# Altium footprint library PCB1.PcbLib: 27 footprints (part 2 of 2)
Each footprint in its own frame and in the unit in brackets; x right, y up, seen from the top. Pads: shape width x height; smd on the part's side, far side on the other; paste and mask are expansions set on the pad; w line width, h text height; cw(c..) or ccw(c..) is an arc to the next point about the centre after c.
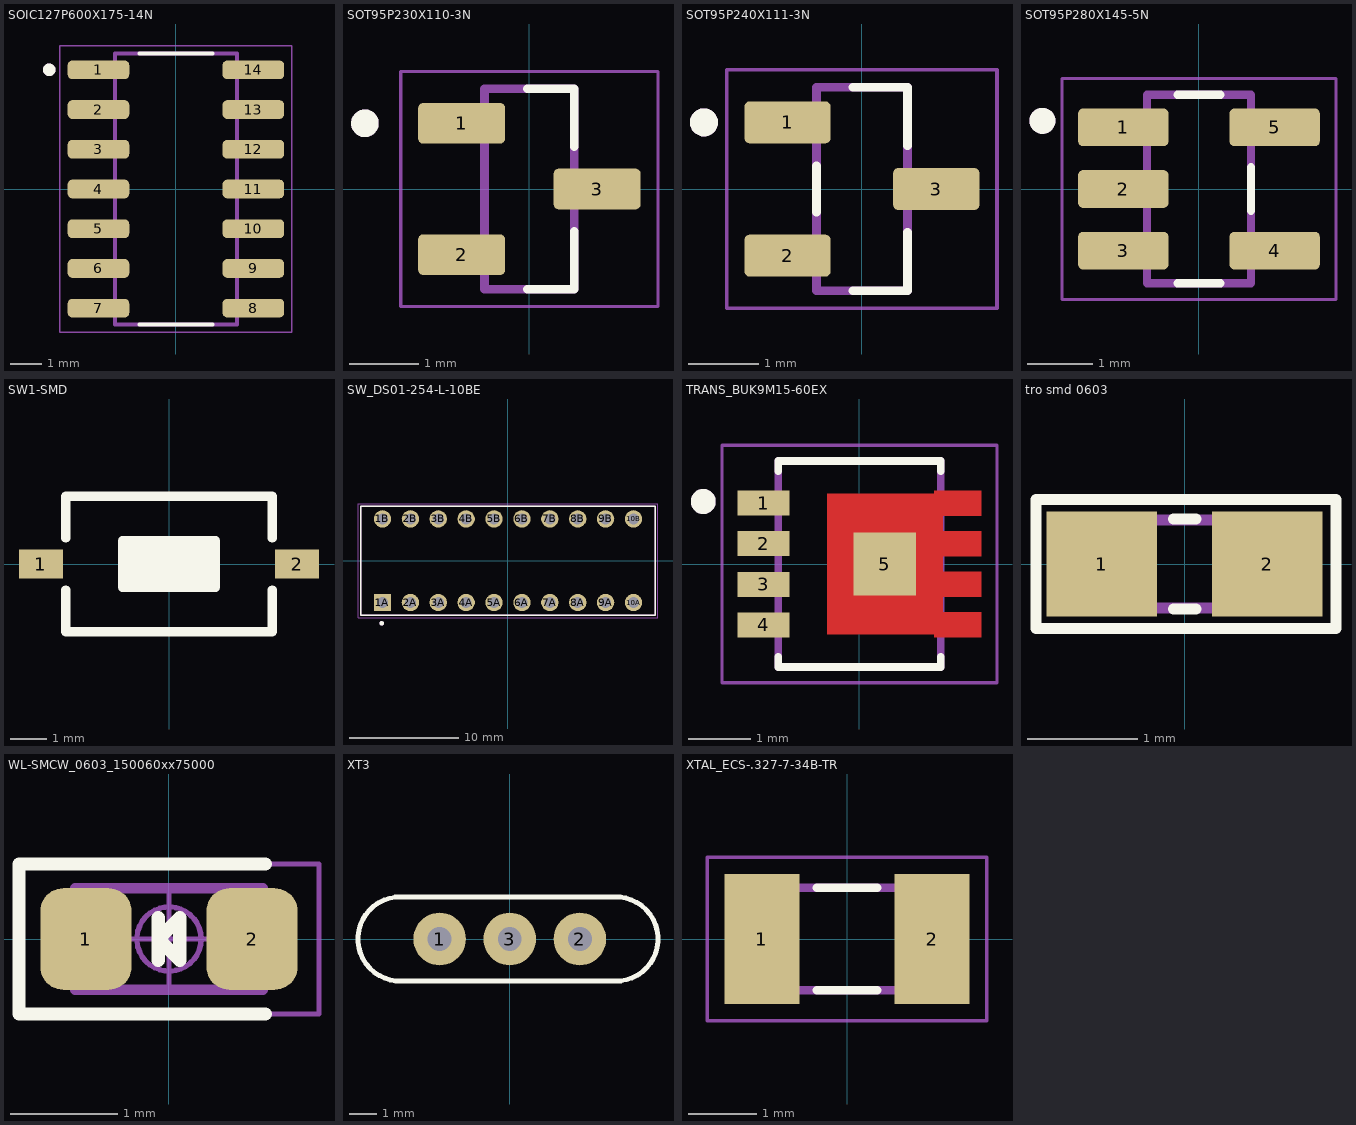
[diagram p1: the footprints below, top view; thin cyan lines are the x and y axes]

## SOIC127P600X175-14N [mm]
pads (14):
  rrect50% 1.97x0.6 smd paste+0 mask+0.102: 1(-2.475,3.81) 2(-2.475,2.54) 3(-2.475,1.27) 4(-2.475,0) 5(-2.475,-1.27) 6(-2.475,-2.54) 7(-2.475,-3.81) 8(2.475,-3.81) 9(2.475,-2.54) 10(2.475,-1.27) 11(2.475,0) 12(2.475,1.27) 13(2.475,2.54) 14(2.475,3.81)
Top Overlay:
  circle w0.2: c-4.05,3.81 r0.1
  lines w0.127: -1.17,-4.325 1.17,-4.325 ; -1.17,4.325 1.17,4.325
Mechanical 13:
  circle w0.2: c-4.05,3.81 r0.1
  lines w0.127: -1.95,-4.325 -1.95,4.325 1.95,4.325 1.95,-4.325 -1.95,-4.325
Mechanical 15:
  lines w0.05: -3.71,-4.575 -3.71,4.575 3.71,4.575 3.71,-4.575 -3.71,-4.575
3D body "step_temp.STEP": height 1.75, standoff 0, extent -3,-4.325 3,4.325

## SOT95P230X110-3N [mm]
pads (3):
  rrect25% 1.26x0.59 smd: 1(-0.98,0.95) 2(-0.98,-0.95) 3(0.98,0)
Top Overlay:
  circle w0.2: c-2.38,0.95 r0.1
  lines w0.127: -0.03,-1.45 0.65,-1.45 0.65,-0.615 ; -0.03,1.45 0.65,1.45 0.65,0.615
Mechanical 13:
  circle w0.2: c-2.38,0.95 r0.1
  lines w0.127: -0.65,-1.45 0.65,-1.45 0.65,1.45 -0.65,1.45 -0.65,-1.45
Mechanical 15:
  lines w0.05: -1.86,-1.7 -1.86,1.7 1.86,1.7 1.86,-1.7 -1.86,-1.7
3D body "step_temp.STEP": height 1.1, standoff 0, extent -1.15,-1.45 1.15,1.45

## SOT95P240X111-3N [mm]
pads (3):
  rrect25% 1.23x0.6 smd: 1(-1.06,0.95) 2(-1.06,-0.95) 3(1.06,0)
Top Overlay:
  circle w0.2: c-2.25,0.95 r0.1
  lines w0.127: -0.65,-0.33 -0.65,0.33 ; -0.125,-1.45 0.65,-1.45 0.65,-0.62 ; -0.125,1.45 0.65,1.45 0.65,0.62
Mechanical 13:
  circle w0.2: c-2.25,0.95 r0.1
  lines w0.127: -0.65,-1.45 0.65,-1.45 0.65,1.45 -0.65,1.45 -0.65,-1.45
Mechanical 15:
  lines w0.05: -1.925,-1.7 -1.925,1.7 1.925,1.7 1.925,-1.7 -1.925,-1.7
3D body "step_temp.STEP": height 1.11, standoff 0, extent -1.2,-1.45 1.2,1.45

## SOT95P280X145-5N [mm]
pads (5):
  rrect25% 1.39x0.58 smd: 1(-1.165,0.95) 2(-1.165,0) 3(-1.165,-0.95) 4(1.165,-0.95) 5(1.165,0.95)
Top Overlay:
  circle w0.2: c-2.41,1.05 r0.1
  lines w0.127: -0.33,-1.45 0.33,-1.45 ; -0.33,1.45 0.33,1.45 ; 0.8,-0.335 0.8,0.335
Mechanical 13:
  circle w0.2: c-2.41,1.05 r0.1
  lines w0.127: -0.8,-1.45 -0.8,1.45 0.8,1.45 0.8,-1.45 -0.8,-1.45
Mechanical 15:
  lines w0.05: -2.11,-1.7 2.11,-1.7 2.11,1.7 -2.11,1.7 -2.11,-1.7
3D body "step_temp.STEP": height 1.45, standoff 0, extent -1.35,-1.45 1.35,1.45

## SW1-SMD [mm]
pads (2):
  rect 1.2x0.8 smd: 1(-3.5,0) 2(3.5,0)
Top Overlay:
  rectangle: -1.27,-0.635 1.27,0.635
  lines w0.254: -2.819,-0.711 -2.819,-1.854 2.819,-1.854 2.819,-0.711 ; -2.819,0.711 -2.819,1.854 2.819,1.854 2.819,0.711 ; -1.27,-0.635 1.27,-0.635 1.27,0.635 -1.27,0.635 -1.27,-0.635
3D body "User Library-Button-SMD.step": height 2.5, standoff 0, extent -3.05,-1.85 3.05,1.85

## SW_DS01-254-L-10BE [mm]
pads (20):
  rect 1.58x1.58 / inner round 1.58 / far side rect 1.58x1.58 hole 1: 1A(-11.43,-3.81)
  round 1.58 hole 1: 1B(-11.43,3.81) 2A(-8.89,-3.81) 2B(-8.89,3.81) 3A(-6.35,-3.81) 3B(-6.35,3.81) 4A(-3.81,-3.81) 4B(-3.81,3.81) 5A(-1.27,-3.81) 5B(-1.27,3.81) 6A(1.27,-3.81) 6B(1.27,3.81) 7A(3.81,-3.81) 7B(3.81,3.81) 8A(6.35,-3.81) 8B(6.35,3.81) 9A(8.89,-3.81) 9B(8.89,3.81) 10A(11.43,-3.81) 10B(11.43,3.81)
Top Overlay:
  circle w0.2: c-11.5,-5.7 r0.1
  lines w0.127: -13.41,-4.95 -13.41,4.95 13.41,4.95 13.41,-4.95 -13.41,-4.95
Mechanical 13:
  circle w0.2: c-11.5,-5.7 r0.1
  lines w0.127: -13.41,-4.95 -13.41,4.95 13.41,4.95 13.41,-4.95 -13.41,-4.95
Mechanical 15:
  lines w0.05: -13.66,-5.2 -13.66,5.2 13.66,5.2 13.66,-5.2 -13.66,-5.2
3D body "step_temp.STEP": height 5.18, standoff -5.18, extent -4.95,-4.625 4.95,22.195

## TRANS_BUK9M15-60EX [mm]
pads (5):
  rect 0.83x0.4 smd paste-1 mask+0.05: 1(-1.535,0.975) 2(-1.535,0.325) 3(-1.535,-0.325) 4(-1.535,-0.975)
  rect 1x1 smd paste-1 mask+0: 5(0.405,0)
Top Layer:
  region: 1.95,0.775 1.33,0.775 1.33,0.525 1.95,0.525 1.95,0.125 1.33,0.125 1.33,-0.125 1.95,-0.125 1.95,-0.525 1.33,-0.525 1.33,-0.775 1.95,-0.775 1.95,-1.175 1.2,-1.175 1.2,-1.125 -0.52,-1.125 -0.52,1.125 1.2,1.125 1.2,1.175 1.95,1.175
Top Overlay:
  circle w0.2: c-2.5,1 r0.1
  lines w0.127: -1.3,-1.49 -1.3,-1.65 1.3,-1.65 1.3,-1.49 ; -1.3,1.49 -1.3,1.65 1.3,1.65 1.3,1.49
Top Paste:
  region: 1.95,-1.125 1.2,-1.125 1.2,-0.825 1.95,-0.825
  region: 1.95,-0.475 1.2,-0.475 1.2,-0.175 1.95,-0.175
  region: 1.95,0.825 1.2,0.825 1.2,1.125 1.95,1.125
  region: 1.95,0.175 1.2,0.175 1.2,0.475 1.95,0.475
  region: 0.9,-0.944 0.39,-0.944 0.39,-0.309 0.9,-0.309
  region: 0.9,0.309 0.39,0.309 0.39,0.944 0.9,0.944
  region: 0.04,-0.944 -0.47,-0.944 -0.47,-0.309 0.04,-0.309
  region: 0.04,0.309 -0.47,0.309 -0.47,0.944 0.04,0.944
  region: -1.12,0.825 -1.95,0.825 -1.95,1.125 -1.12,1.125
  region: -1.12,-1.125 -1.95,-1.125 -1.95,-0.825 -1.12,-0.825
  region: -1.12,-0.475 -1.95,-0.475 -1.95,-0.175 -1.12,-0.175
  region: -1.12,0.175 -1.95,0.175 -1.95,0.475 -1.12,0.475
Top Solder:
  region: 2,0.725 1.38,0.725 1.38,0.575 2,0.575 2,0.075 1.38,0.075 1.38,-0.075 2,-0.075 2,-0.575 1.38,-0.575 1.38,-0.725 2,-0.725 2,-1.225 1.15,-1.225 1.15,-1.175 -0.57,-1.175 -0.57,1.175 1.15,1.175 1.15,1.225 2,1.225
Mechanical 13:
  circle w0.2: c-2.5,1 r0.1
  lines w0.127: -1.3,-1.65 -1.3,1.65 1.3,1.65 1.3,-1.65 -1.3,-1.65
Mechanical 15:
  lines w0.05: -2.2,-1.9 -2.2,1.9 2.2,1.9 2.2,-1.9 -2.2,-1.9
3D body "step_temp.STEP": height 0.9, standoff 0, extent -1.65,-1.65 1.65,1.65

## tro smd 0603 [mm]
pads (2):
  rect 1x0.95 smd mask+0.076: 1(-0.75,0) 2(0.75,0)
Top Overlay:
  lines w0.102: -0.102,-0.406 0.102,-0.406 ; -0.102,0.406 0.102,0.406 ; -1.346,-0.584 -1.346,0.584 1.372,0.584 1.372,-0.584 -1.346,-0.584
Bottom Designator:
  lines w0.1: -0.8,-0.4 -0.8,0.4 0.8,0.4 0.8,-0.4 -0.8,-0.4
3D body "User Library-R SMD 0603.STEP": height 0.44, standoff -0.01, extent -0.82,-0.418 0.82,0.432

## WL-SMCW_0603_150060xx75000 [mm]
pads (2):
  rrect50% 0.85x0.95 smd: 1(-0.775,0) 2(0.775,0)
Top Overlay:
  lines w0.125: -0.1,-0.2 -0.1,0.2 ; 0.9,-0.7 -1.4,-0.7 -1.4,0.7 0.9,0.7 ; -0.1,0 0.1,-0.2 0.1,0.2 -0.1,0
Top Assembly:
  lines w0.1: -0.875,-0.475 0.875,-0.475 0.875,0.475 -0.875,0.475 -0.875,-0.475
  text "'.Designator'" at -4.217,-0.663 h1.6
Top Component Center:
  circle w0.05: c0,0 r0.3
  lines w0.05: -0.5,0 0.5,0 ; 0,-0.5 0,0.5
Top Component Outline:
  rectangle: -0.875,-0.475 -0.475,0.475
  rectangle: 0.475,-0.475 0.875,0.475
  lines w0.05: -0.875,-0.475 -0.875,0.475 0.875,0.475 0.875,-0.475 -0.875,-0.475
Top Courtyard:
  lines w0.05: -1.4,-0.7 1.4,-0.7 1.4,0.7 -1.4,0.7 -1.4,-0.7
3D body "150060xxx.stp": height 0.7, standoff 0, extent -0.8,-0.4 0.8,0.4

## XT3 [mil]
pads (3):
  round 75 hole 34: 1(-100,0) 2(100,0) 3(0,0)
Top Overlay:
  lines w7: 149.38,59.95 cw(c151.36,-0.02) 150,-60 -154.38,-59.95 cw(c-156.36,0.02) -155,60 149.38,60
3D body "User Library-XTAL2.step": height 126.52, standoff -95.28, extent -212,-60 208,60

## XTAL_ECS-.327-7-34B-TR [mm]
pads (2):
  rect 1.1x1.9 smd: 1(-1.25,0) 2(1.25,0)
Top Overlay:
  lines w0.127: -0.44,-0.75 0.44,-0.75 ; -0.44,0.75 0.44,0.75
Mechanical 13:
  lines w0.127: -1.6,-0.75 -1.6,0.75 1.6,0.75 1.6,-0.75 -1.6,-0.75
Mechanical 15:
  lines w0.05: -2.05,-1.2 2.05,-1.2 2.05,1.2 -2.05,1.2 -2.05,-1.2
3D body "step_temp.STEP": height 0.9, standoff 0, extent -1.6,-0.75 1.6,0.75